# Altium schematic symbol library Diodes.SchLib: 2 symbols
Pins are listed as number, name and electrical type; pins without a type are passive.

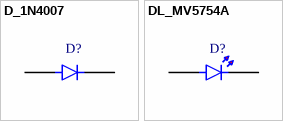
[diagram p0: symbols D_1N4007 to DL_MV5754A]

## D_1N4007
designator D?
Diode Standard 1000 V 1A Through Hole DO-41; Voltage Forward: *; Max Voltage Reverse: *; Max Nominal Current: *; Current peak reverse: *; Min Temperature: *; Max Temperature: *; MPN: *; Max Power dissipated: *; Package: *; SMD/THC: *
footprint DO-41
pins: A, K

## DL_MV5754A
designator D?
Diode Led Red; MPN: MV5754A; Voltage Forward: 2 V; Max Voltage Reverse: 5 V; Max Nominal Current: 20 mA; Min Temperature: -40 ºC; Max Temperature: 100 ºC; Max Power dissipated: 80 mW; SMD/THC: THC; Current peak reverse: *; Package: *
footprint LED-2.54mm
pins: A, K